# Altium footprint library PcbLib.PcbLib: 34 footprints (part 1 of 3)
Each footprint in its own frame and in the unit in brackets; x right, y up, seen from the top. Pads: shape width x height; smd on the part's side, far side on the other; paste and mask are expansions set on the pad; w line width, h text height; cw(c..) or ccw(c..) is an arc to the next point about the centre after c.
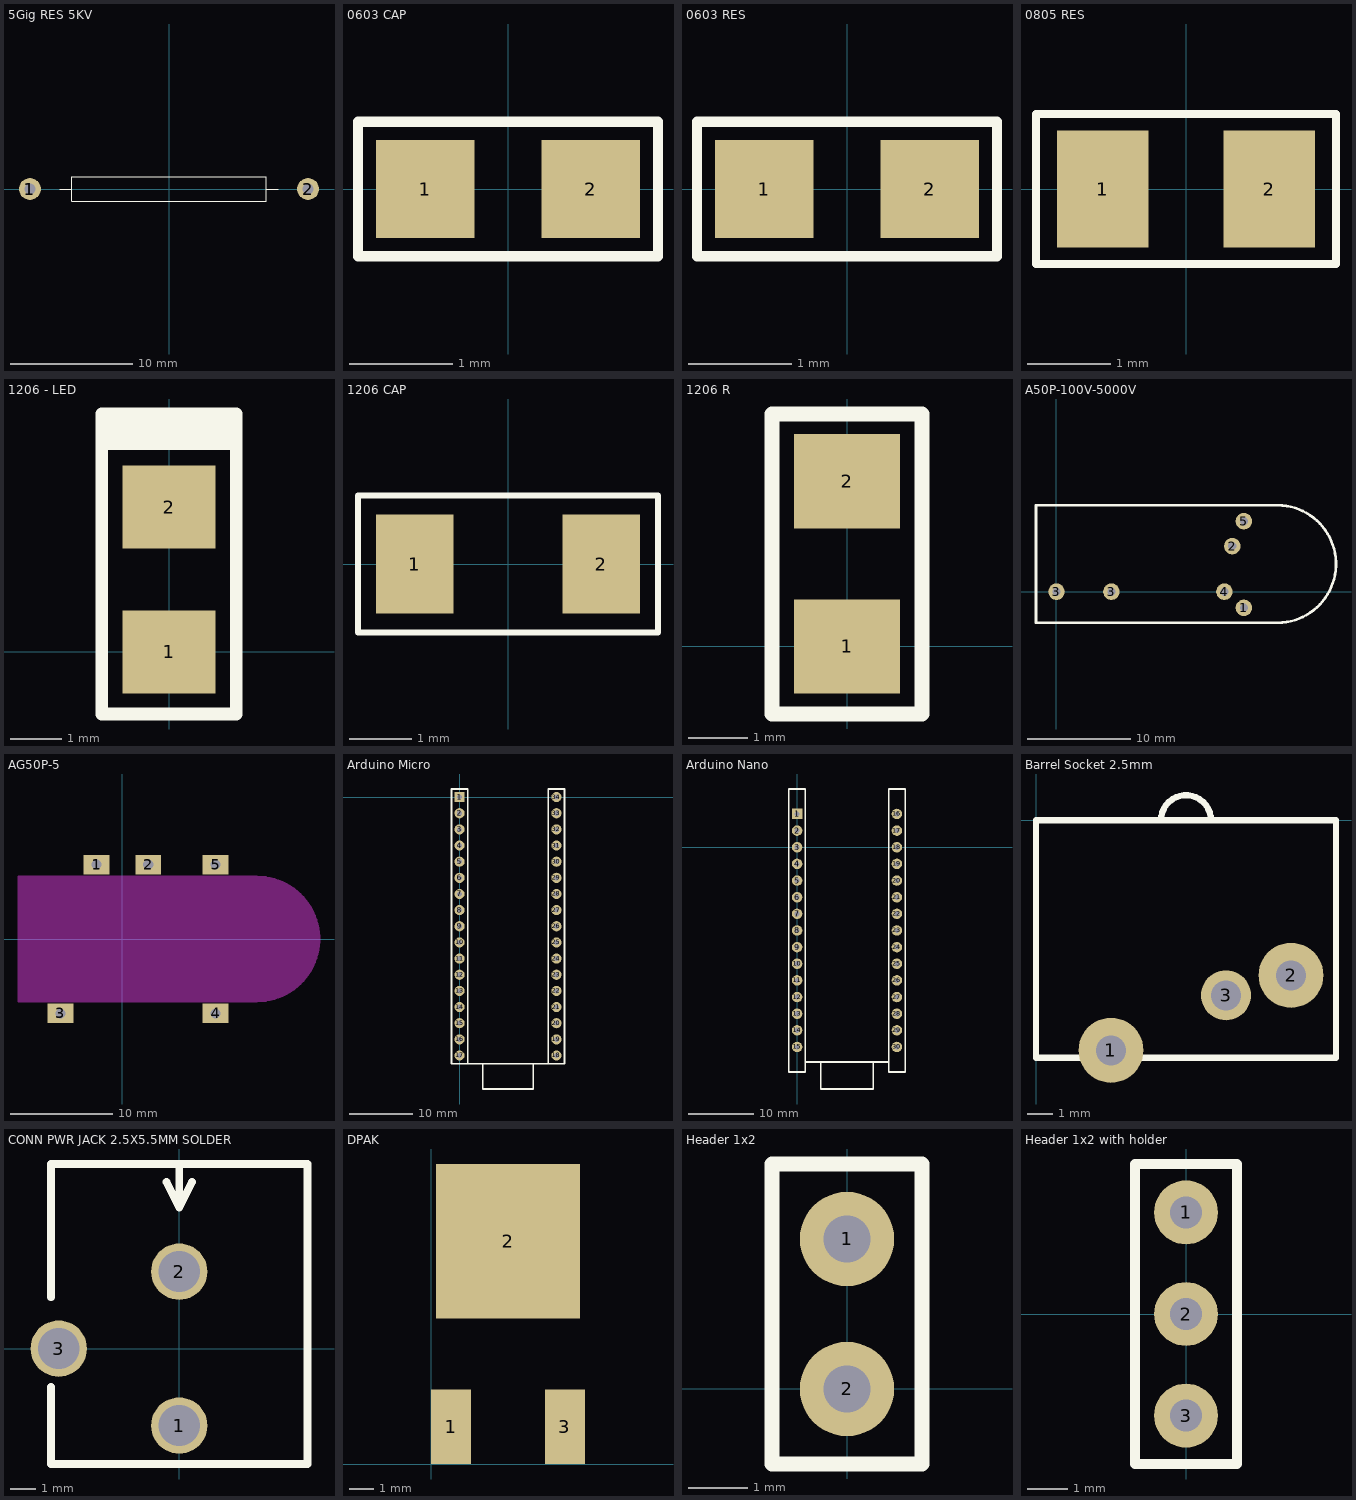
[diagram p0: the footprints below, top view; thin cyan lines are the x and y axes]

## 5Gig RES 5KV [mm]
pads (2):
  round 1.8 hole 0.9: 1(-11.43,0) 2(11.43,0)
Top Overlay:
  lines w0.1: -9,0 -8,0 ; 8,0 9,0 ; -8,-1 -8,1 8,1 8,-1 -8,-1
3D body: height 10, standoff 0, extent -11,-1 11,1

## 0603 CAP [mm] "http://www.digikey.co.nz/Web%20Export/Supplier%20Content/Vishay_8026/PDF/VishayBeyschlag_SolderPad.pdf?redirected=1 with dimension G modified by +0.15"
pads (2):
  rect 0.95x0.95 smd: 1(-0.8,0) 2(0.8,0)
Top Overlay:
  lines w0.1: -1.45,-0.65 -1.45,0.65 1.45,0.65 1.45,-0.65 -1.45,-0.65
3D body: height 0.41, standoff 0, extent 0.57,-0.4 0.77,0.4
3D body: height 0.41, standoff 0, extent -0.77,-0.4 -0.57,0.4
3D body: height 0.4, standoff 0.01, extent -0.762,-0.381 0.762,0.381

## 0603 RES [mm] "http://www.digikey.co.nz/Web%20Export/Supplier%20Content/Vishay_8026/PDF/VishayBeyschlag_SolderPad.pdf?redirected=1 with dimension G modified by +0.15"
pads (2):
  rect 0.95x0.95 smd: 1(-0.8,0) 2(0.8,0)
Top Overlay:
  lines w0.1: -1.45,-0.65 -1.45,0.65 1.45,0.65 1.45,-0.65 -1.45,-0.65
3D body: height 0.41, standoff 0, extent 0.57,-0.4 0.77,0.4
3D body: height 0.41, standoff 0, extent -0.77,-0.4 -0.57,0.4
3D body: height 0.4, standoff 0.01, extent -0.762,-0.381 0.762,0.381

## 0805 RES [mm] "http://www.digikey.co.nz/Web%20Export/Supplier%20Content/Vishay_8026/PDF/VishayBeyschlag_SolderPad.pdf?redirected=1 with dimension G modified by +0.25mm"
pads (2):
  rect 1.1x1.4 smd: 1(-1,0) 2(1,0)
Top Overlay:
  lines w0.1: -1.8,-0.9 1.8,-0.9 1.8,0.9 -1.8,0.9 -1.8,-0.9
3D body: height 0.61, standoff 0, extent 0.762,-0.66 1.041,0.66
3D body: height 0.61, standoff 0, extent -1.041,-0.66 -0.762,0.66
3D body: height 0.6, standoff 0, extent -1.016,-0.635 1.016,0.635

## 1206 - LED [mm]
pads (2):
  rect 1.8x1.6 smd: 1(0,0) 2(0,2.8)
Top Overlay:
  rectangle: -1.2,3.9 1.2,4.6
  lines w0.25: -1.3,-1.2 -1.3,4.6 1.3,4.6 1.3,-1.2 -1.3,-1.2

## 1206 CAP [mm]
pads (2):
  rect 1.25x1.6 smd: 1(-1.5,0) 2(1.5,0)
Top Overlay:
  lines w0.1: -2.413,-1.1 -2.413,1.1 2.413,1.1 2.413,-1.1 -2.413,-1.1
3D body: height 1.05, standoff 0, extent 1.25,-0.8 1.55,0.8
3D body: height 1, standoff 0.01, extent -1.524,-0.762 1.524,0.762
3D body: height 1.05, standoff 0, extent -1.55,-0.8 -1.25,0.8

## 1206 R [mm]
pads (2):
  rect 1.8x1.6 smd: 1(0,0) 2(0,2.8)
Top Overlay:
  lines w0.254: -1.27,-1.143 -1.27,3.937 1.27,3.937 1.27,-1.143 -1.27,-1.143
3D body: height 0.25, standoff 0, extent -0.8,-0.4 0.8,3.2

## A50P-100V-5000V [mm]
pads (6):
  round 1.6 hole 0.8: 1(18.11,-1.57) 2(16.99,4.4) 3(0,0) 3(5.31,0) 4(16.23,0) 5(18.11,6.81)
Top Overlay:
  lines w0.254: -1.98,-3 21,-3 ccw(c21.33,2.67) 21,8.34 -1.98,8.34 -1.98,-3
3D body: height 6.35, standoff 0, extent 21.082,-3.045 27.051,8.385
3D body: height 6.35, standoff 0, extent 26.289,4.445 26.289,4.445
3D body: height 6.35, standoff 0, extent -1.905,-3.045 21.082,8.385

## AG50P-5 [mm] "1470-3217-ND"
height 6.4
pads (5):
  rect 2.54x1.91 hole 1: 1(-2.54,7.302) 2(2.54,7.302) 3(-6.096,-7.302) 4(9.144,-7.302) 5(9.144,7.302)
Keep-Out Layer:
  board cut-out: -10.16,-6.096 -10.16,6.096 13.208,6.096 13.55,6.096 14.231,6.019 14.898,5.867 15.545,5.641 16.161,5.344 16.741,4.979 17.276,4.553 17.761,4.068 18.187,3.533 18.552,2.953 18.849,2.337 19.075,1.69 19.227,1.023 19.304,0.342 19.304,-0.342 19.227,-1.023 19.075,-1.69 18.849,-2.337 18.552,-2.953 18.187,-3.533 17.761,-4.068 17.276,-4.553 16.741,-4.979 16.161,-5.344 15.545,-5.641 14.898,-5.867 14.231,-6.019 13.55,-6.096 13.208,-6.096
Keep-Out Layer:
  lines w0.25: 13.208,-6.096 -10.16,-6.096 -10.16,6.096 13.208,6.096
  lines w0.254: 13.208,-6.096 ccw(c13.208,0) 13.208,6.096

## Arduino Micro [mm]
pads (34):
  rect 1.6x1.6 hole 0.8: 1(0,0)
  round 1.6 hole 0.8: 2(0,-2.54) 3(0,-5.08) 4(0,-7.62) 5(0,-10.16) 6(0,-12.7) 7(0,-15.24) 8(0,-17.78) 9(0,-20.32) 10(0,-22.86) 11(0,-25.4) 12(0,-27.94) 13(0,-30.48) 14(0,-33.02) 15(0,-35.56) 16(0,-38.1) 17(0,-40.64) 18(15.24,-40.64) 19(15.24,-38.1) 20(15.24,-35.56) 21(15.24,-33.02) 22(15.24,-30.48) 23(15.24,-27.94) 24(15.24,-25.4) 25(15.24,-22.86) 26(15.24,-20.32) 27(15.24,-17.78) 28(15.24,-15.24) 29(15.24,-12.7) 30(15.24,-10.16) 31(15.24,-7.62) 32(15.24,-5.08) 33(15.24,-2.54) 34(15.24,0)
Top Overlay:
  lines w0.25: 3.62,-41.91 3.62,-45.91 11.62,-45.91 11.62,-41.91 ; 1.27,-41.91 13.97,-41.91 ; 1.27,-41.91 -1.27,-41.91 -1.27,1.27 1.27,1.27 1.27,-41.91 ; 13.97,-41.91 16.51,-41.91 16.51,1.27 13.97,1.27 13.97,-41.91
3D body: height 8.26, standoff 0, extent -1.397,-41.91 1.143,1.27
3D body: height 8.26, standoff 0, extent 14.097,-41.91 16.637,1.27

## Arduino Nano [mm]
pads (30):
  rect 1.6x1.6 hole 0.8: 1(0,5.08)
  round 1.6 hole 0.8: 2(0,2.54) 3(0,0) 4(0,-2.54) 5(0,-5.08) 6(0,-7.62) 7(0,-10.16) 8(0,-12.7) 9(0,-15.24) 10(0,-17.78) 11(0,-20.32) 12(0,-22.86) 13(0,-25.4) 14(0,-27.94) 15(0,-30.48) 16(15.24,5.08) 17(15.24,2.54) 18(15.24,0) 19(15.24,-2.54) 20(15.24,-5.08) 21(15.24,-7.62) 22(15.24,-10.16) 23(15.24,-12.7) 24(15.24,-15.24) 25(15.24,-17.78) 26(15.24,-20.32) 27(15.24,-22.86) 28(15.24,-25.4) 29(15.24,-27.94) 30(15.24,-30.48)
Top Overlay:
  lines w0.25: 1.27,-34.29 -1.27,-34.29 -1.27,8.89 1.27,8.89 1.27,6.35 1.27,-32.766 13.97,-32.766 13.97,8.89 16.51,8.89 16.51,-34.29 13.97,-34.29 ; 3.62,-32.893 3.62,-36.893 11.62,-36.893 11.62,-32.893
  lines w0.254: 1.27,-34.29 1.27,-32.766 ; 13.97,-34.29 13.97,-32.766
3D body: height 8.26, standoff 0, extent -1.397,-34.29 1.143,8.89
3D body: height 8.26, standoff 0, extent 13.97,-34.29 16.51,8.89

## Barrel Socket 2.5mm [mm]
pads (3):
  round 2.6 hole 1.2: 1(3,-9.2) 2(10.2,-6.2)
  round 2 hole 1.2: 3(7.6,-7)
Top Overlay:
  lines w0.254: 5,0 cw(c6,0) 7,0 ; 0,-9.5 12,-9.5 12,0 0,0 0,-9.5

## CONN PWR JACK 2.5X5.5MM SOLDER [mm] "CP-102BH-ND"
height 11
pads (3):
  round 2.2 hole 1.6: 1(0,-3) 2(0,3) 3(-4.7,0)
Top Overlay:
  lines w0.3: -5,-1.5 -5,-4.5 5,-4.5 5,7.2 -5,7.2 -5,2 ; -0.5,6.5 0,5.5 ; 0,7.2 0,5.5 ; 0.5,6.5 0,5.5
3D body: height 11, standoff 0, extent -4.5,-3.7 4.5,10.7

## DPAK [mm]
pads (3):
  rect 1.6x3 smd: 1(0.8,1.5) 3(5.37,1.5)
  rect 5.8x6.2 smd: 2(3.085,8.95)

## Header 1x2 [mm]
pads (2):
  round 1.6 hole 0.8: 1(0,2.54) 2(0,0)
Top Overlay:
  lines w0.25: -1.27,-1.27 1.27,-1.27 1.27,3.81 -1.27,3.81 -1.27,-1.27

## Header 1x2 with holder [mm]
pads (3):
  round 1.6 hole 0.8: 1(0,2.54) 2(0,0) 3(0,-2.54)
Top Overlay:
  lines w0.25: -1.27,-3.75 -1.27,3.75 1.27,3.75 1.27,-3.75 -1.27,-3.75